# EAGLE library part TXB0102DCUR (library microfloat)
2-Bit Bidirectional Voltage-Level Shifter with Auto Direction Sensing and +/-15-kV ESD Protect 8-VSSOP -40 to 85
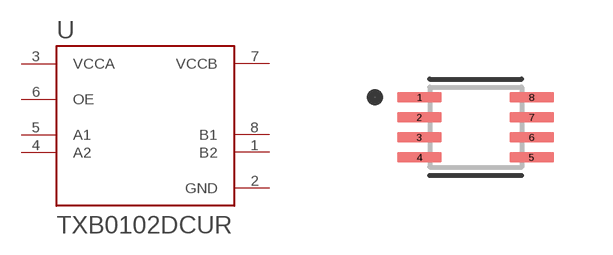
[diagram p3: symbol with the pads of SOP50P310X90-8N; footprint SOP50P310X90-8N]

Designator prefix U

## TXB0102DCUR (DESCRIPTION: 2-Bit Bidirectional Voltage-Level Shifter with Auto Direction Sensing and +/-15-kV ESD Protect 8-VSSOP -40 to 85; DIGI-KEY_PART_NUMBER: 296-22862-1-ND; MF: Texas Instruments; MP: TXB0102DCUR; PACKAGE: VSSOP-8 Texas Instruments; PURCHASE-URL: https://pricing.snapeda.com/search/part/TXB0102DCUR/?ref=eda)  [SOP50P310X90-8N]
1  B2
2  GND  pwr
3  VCCA  pwr
4  A2
5  A1
6  OE  in
7  VCCB  pwr
8  B1

## Footprint SOP50P310X90-8N (pad centres in mm)
smd 1.12 x 0.27: 1 -1.405,0.75; 2 -1.405,0.25; 3 -1.405,-0.25; 4 -1.405,-0.75; 5 1.405,-0.75; 6 1.405,-0.25; 7 1.405,0.25; 8 1.405,0.75